# EAGLE library part SN75240 (library personal)
SN75240 USB Transient suppressor SO-8 package
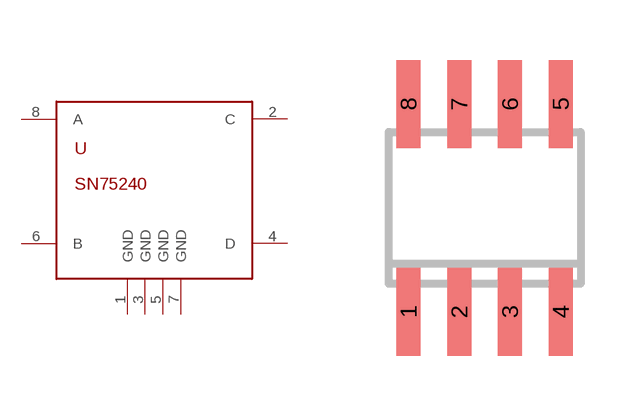
[diagram p12: symbol with the pads of SO-08; footprint SO-08]

Designator prefix -

## SN75240  [SO-08]
1  GND
2  C
3  GND
4  D
5  GND
6  B
7  GND
8  A

## Footprint SO-08 (pad centres in mm)
Small Outline Narrow Plastic Gull Wing 150-mil body, package type SN
smd 0.6 x 2.2: 1 -1.905,-2.6; 2 -0.635,-2.6; 3 0.635,-2.6; 4 1.905,-2.6; 5 1.905,2.6; 6 0.635,2.6; 7 -0.635,2.6; 8 -1.905,2.6